# EAGLE library part 6-534237-4 (library connect4)
Check availability <https://pricing.snapeda.com/parts/6-534237-4/TE%20Connectivity/view-part?ref=eda>
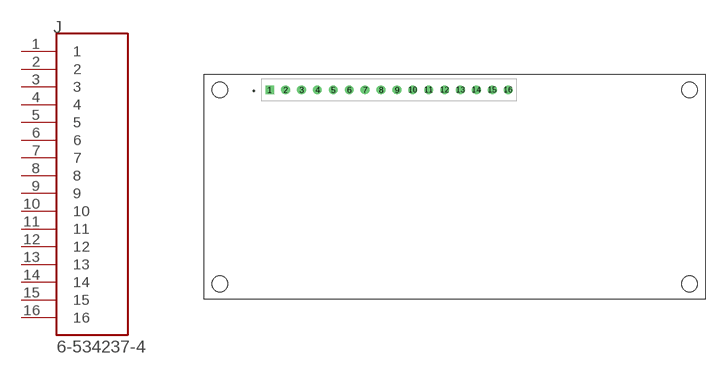
[diagram p3: symbol with the pads of TE_6-534237-4; footprint TE_6-534237-4]

Designator prefix J

## 6-534237-4 (AVAILABILITY: In Stock; COMMENT: 6-534237-4; DESCRIPTION: 16 MODII VRT SR CE 100/115; EU_ROHS_COMPLIANCE: Compliant; MF: TE Connectivity; MP: 6-534237-4; PACKAGE: None; PRICE: None; PURCHASE-URL: https://pricing.snapeda.com/search/part/6-534237-4/?ref=eda)  [TE_6-534237-4]
1  1  pas
2  2  pas
3  3  pas
4  4  pas
5  5  pas
6  6  pas
7  7  pas
8  8  pas
9  9  pas
10  10  pas
11  11  pas
12  12  pas
13  13  pas
14  14  pas
15  15  pas
16  16  pas

## Footprint TE_6-534237-4 (pad centres in mm)
drill 0.88 square: 1 7.95,0
drill 0.88: 2 10.49,0; 3 13.03,0; 4 15.57,0; 5 18.11,0; 6 20.65,0; 7 23.19,0; 8 25.73,0; 9 28.27,0; 10 30.81,0; 11 33.35,0; 12 35.89,0; 13 38.43,0; 14 40.97,0; 15 43.51,0; 16 46.05,0
hole 2.5 at 0,0
hole 2.5 at 75,0
hole 2.5 at 0,-31
hole 2.5 at 75,-31